# EAGLE library part CC2500-ANTENNA-MODULE (library CC2500)
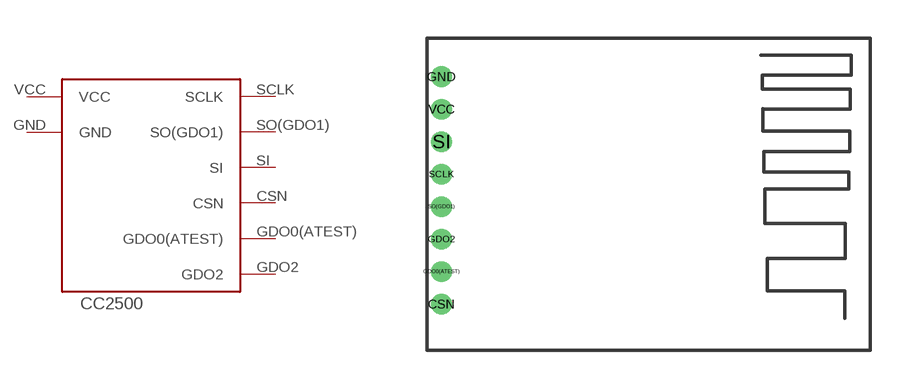
[diagram p0: symbol with the pads of CC2500-ANTENNA-MODULE; footprint CC2500-ANTENNA-MODULE]

Designator prefix -

## CC2500-ANTENNA-MODULE  [CC2500-ANTENNA-MODULE]
CSN  CSN
GDO0(ATEST)  GDO0(ATEST)
GDO2  GDO2
GND  GND
SCLK  SCLK
SI  SI
SO(GDO1)  SO(GDO1)
VCC  VCC

## Footprint CC2500-ANTENNA-MODULE (pad centres in mm)
drill 0.3: CSN 0.559,1.8; GDO0(ATEST) 0.559,3.07; GDO2 0.559,4.34; GND 0.559,10.69; SCLK 0.559,6.88; SI 0.559,8.15; SO(GDO1) 0.559,5.61; VCC 0.559,9.42